# EAGLE library part MAX1947 (library fbri)
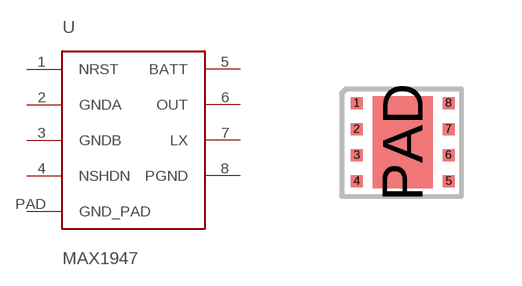
[diagram p3: symbol with the pads of TDFN8; footprint TDFN8]

Designator prefix -

## MAX1947  [TDFN8]
1  NRST
2  GNDA
3  GNDB
4  NSHDN
5  BATT
6  OUT
7  LX
8  PGND
PAD  GND_PAD

## Footprint TDFN8 (pad centres in mm)
smd 0.3 x 0.3: 1 -1.125,1; 2 -1.125,0.35; 3 -1.125,-0.3; 4 -1.125,-0.95; 5 1.175,-0.95; 6 1.175,-0.3; 7 1.175,0.35; 8 1.175,1
smd 1.5 x 2.3: PAD 0.025,0.025